# Altium schematic symbol library CD1206-S01575.SchLib: 1 symbol
Pins are listed as number, name and electrical type; pins without a type are passive.

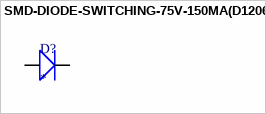
[diagram p0: symbol SMD-DIODE-SWITCHING-75V-150MA(D1206)]

## SMD-DIODE-SWITCHING-75V-150MA(D1206)
designator D?
304040005; MP: SMD-DIODE-SWITCHING-75V-150MA(D1206); MF: {'manufacturer': u'Bourns'}; Package: None; Availability: Unavailable; Price: None; Value: *
footprint LED-1206
pins: NEG, POS